# Altium footprint library Trans_50_15_15.PcbLib: 1 footprints
Each footprint in its own frame and in the unit in brackets; x right, y up, seen from the top. Pads: shape width x height; smd on the part's side, far side on the other; paste and mask are expansions set on the pad; w line width, h text height; cw(c..) or ccw(c..) is an arc to the next point about the centre after c.
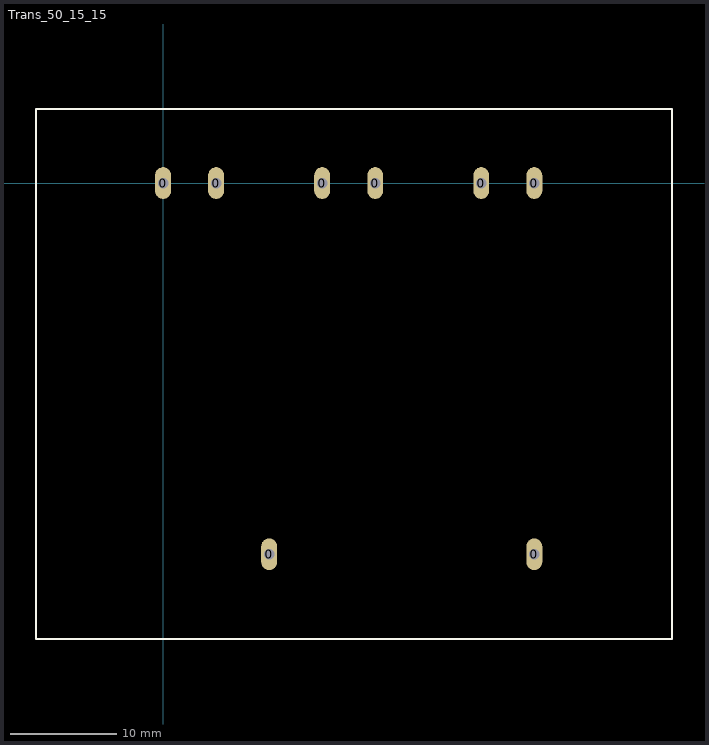
[diagram p0: the footprint, top view; thin cyan lines are the x and y axes]

## Trans_50_15_15 [mm]
pads (8):
  oval 1.5x3 hole 1: 0(0,0) 0(5,0) 0(10,-35) 0(15,0) 0(20,0) 0(30,0) 0(35,-35) 0(35,0)
Top Overlay:
  lines w0.2: -12,-43 48,-43 48,7 -12,7 -12,-43
3D body: height 43, standoff -5.5, extent -12,-43 48,7